# Altium schematic symbol library SPST-NO 4 PIN.SchLib: 1 symbol
Pins are listed as number, name and electrical type; pins without a type are passive.

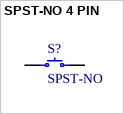
[diagram p0: symbol SPST-NO 4 PIN]

## SPST-NO 4 PIN
designator S?, comment SPST-NO
pins: 1, 2, 3, 4